# Altium footprint library SFH4545.PcbLib: 1 footprints
Each footprint in its own frame and in the unit in brackets; x right, y up, seen from the top. Pads: shape width x height; smd on the part's side, far side on the other; paste and mask are expansions set on the pad; w line width, h text height; cw(c..) or ccw(c..) is an arc to the next point about the centre after c.
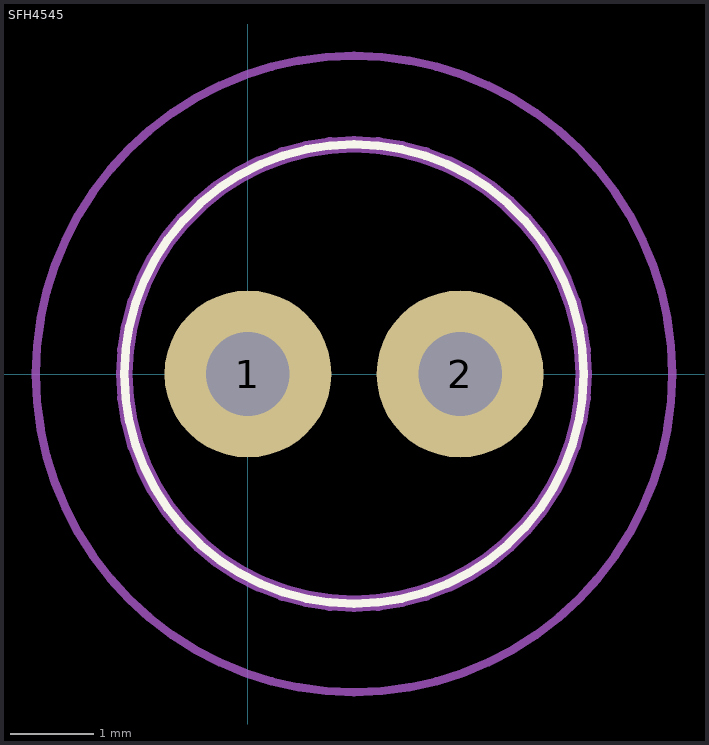
[diagram p0: the footprint, top view; thin cyan lines are the x and y axes]

## SFH4545 [mm]
pads (2):
  round 2 hole 1: 1(0,0) 2(2.54,0)
Top Overlay:
  lines w0.1: -1.48,0 -1.48,0 ; -1.48,0 ccw(c1.27,0) 4.02,0 ; -1.48,0 cw(c1.27,0) 4.02,0 ; 4.02,0 4.02,0
Mechanical 15:
  lines w0.2: -1.48,0 -1.48,0 ; -1.48,0 ccw(c1.27,0) 4.02,0 ; -1.48,0 cw(c1.27,0) 4.02,0 ; 4.02,0 4.02,0
Mechanical 20:
  lines w0.1: -2.54,0 -2.54,0 ; -2.54,0 ccw(c1.27,0) 5.08,0 ; -2.54,0 cw(c1.27,0) 5.08,0 ; 5.08,0 5.08,0